# Altium footprint library ESP32.PcbLib: 1 footprints
Each footprint in its own frame and in the unit in brackets; x right, y up, seen from the top. Pads: shape width x height; smd on the part's side, far side on the other; paste and mask are expansions set on the pad; w line width, h text height; cw(c..) or ccw(c..) is an arc to the next point about the centre after c.
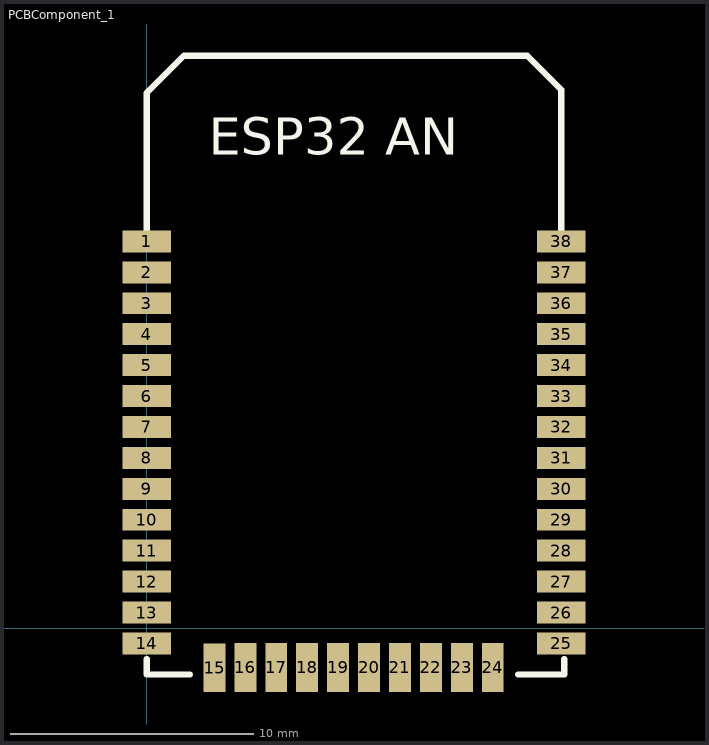
[diagram p0: the footprint, top view; thin cyan lines are the x and y axes]

## PCBComponent_1 [mm]
pads (38):
  rect 2x0.9 smd: 1(0,15.875) 2(0,14.605) 3(0,13.335) 4(0,12.065) 5(0,10.795) 6(0,9.525) 7(0,8.255) 8(0,6.985) 9(0,5.715) 10(0,4.445) 11(0,3.175) 12(0,1.905) 13(0,0.635) 14(0,-0.635) 25(17.018,-0.635) 26(17.018,0.635) 27(17.018,1.905) 28(17.018,3.175) 29(17.018,4.445) 30(17.018,5.715) 31(17.018,6.985) 32(17.018,8.255) 33(17.018,9.525) 34(17.018,10.795) 35(17.018,12.065) 36(17.018,13.335) 37(17.018,14.605) 38(17.018,15.875)
  rect 0.9x2 smd: 15(2.785,-1.635) 16(4.046,-1.619) 17(5.316,-1.619) 18(6.586,-1.619) 19(7.856,-1.619) 20(9.126,-1.619) 21(10.396,-1.619) 22(11.666,-1.619) 23(12.936,-1.619) 24(14.206,-1.619)
Top Overlay:
  lines w0.254: 0,-1.27 0,-1.905 1.778,-1.905 ; 0,15.875 0,21.971 1.524,23.495 15.621,23.495 17.018,22.098 17.018,21.844 17.018,15.875 ; 15.24,-1.905 17.145,-1.905 17.145,-1.27
  text "ESP32 AN" at 2.54,19.431 h1.52